# Altium schematic symbol library CAP TANT 10uF 10V.Schlib: 1 symbol
Pins are listed as number, name and electrical type; pins without a type are passive.

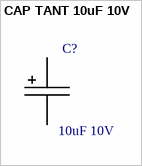
[diagram p0: symbol CAP TANT 10uF 10V]

## CAP TANT 10uF 10V
designator C?, comment 10uF 10V
CAP TANT 10UF 10V 1206; Tolerance: 10%; Package: 1206; Value: 10uF; Rating: 10V; Operating Temperature: -55°C ~ 125°C
footprint 1206 Polarized
pins: 1 P$1, 2 P$2